# Altium schematic symbol library LTC3105.SchLib: 2 symbols
Pins are listed as number, name and electrical type; pins without a type are passive.

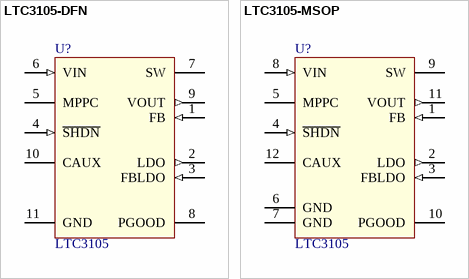
[diagram p0: symbols LTC3105-DFN to LTC3105-MSOP]

## LTC3105-DFN
designator U?  value LTC3105  (hidden comment: LTC3105-DFN)
400mA Step-Up DC/DC  Converter with Maximum Power  Point Control and 250mV Start-Up
pins: 1 FB (in), 2 LDO (out), 3 FBLDO (in), 4 ~{SHDN} (in), 5 MPPC, 6 VIN (in), 7 SW, 8 PGOOD (oc), 9 VOUT (out), 10 CAUX, 11 GND (power)

## LTC3105-MSOP
designator U?  value LTC3105  (hidden comment: LTC3105-MSOP)
400mA Step-Up DC/DC  Converter with Maximum Power  Point Control and 250mV Start-Up
pins: 1 FB (in), 2 LDO (out), 3 FBLDO (in), 4 ~{SHDN} (in), 5 MPPC, 6 GND (power), 7 GND (power), 8 VIN (in), 9 SW, 10 PGOOD (oc), 11 VOUT (out), 12 CAUX